# Altium schematic symbol library SM06B-SRSS-TB_LF__SN_.SCHLIB: 1 symbol
Pins are listed as number, name and electrical type; pins without a type are passive.

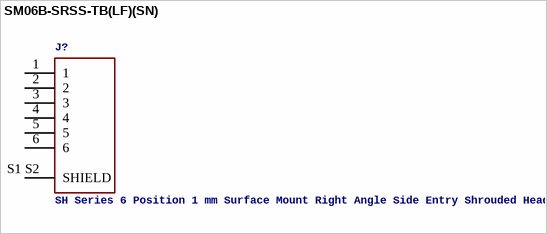
[diagram p0: symbol SM06B-SRSS-TB(LF)(SN)]

## SM06B-SRSS-TB(LF)(SN)
designator J?, comment SH Series 6 Position 1 mm Surface Mount Right Angle Side Entry Shrouded Header
GateName_1: G$1; SymbolName_1: SM06B-SRSS-TB(LF)(SN); MF: JST Sales America Inc.; Description: Connector Header Surface Mount, Right Angle 6 position 0.039 (1.00mm); LibraryName: SM06B-SRSS-TB_LF__SN_; DeviceSetName: SM06B-SRSS-TB(LF)(SN); Package: None; Digi-Key_Part_Number: 455-1806-2-ND; Purchase-URL: https://pricing.snapeda.com/search/part/SM06B-SRSS-TB(LF)(SN)/?ref=eda; MP: SM06B-SRSS-TB(LF)(SN)
footprint JST_SM06B-SRSS-TB(LF)(SN)
pins: 1, 2, 3, 4, 5, 6, S1 S2 SHIELD